# EAGLE library part 691313510007 (library Wurth_Elektronik_Electromechanic_Terminal_Blocks_Connectors_rev15c)
WR-TBL Serie 313 - 5.08 mm Close Horizontal PCB Header , 7 Pins=>Code : Con_TBL_Pluggable_5.08_PCB_THT_Simple_H_691313510007 <http://katalog.we-online.de/media/images/eican/Con_TBL_Pluggable_5.08_PCB_THT_Simple_H_6913135100xx_pf2.jpg> Details see: http://katalog.we-online.de/en/em/691_313_510_0xx Created 2014-06-25, Karrer Zheng 2014 (C) Würth Elektronik
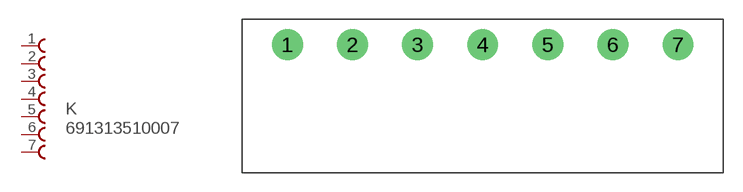
[diagram p113: symbol with the pads of 691313510007; footprint 691313510007]

Designator prefix K

## 691313510007  [691313510007]
1  1  pas
2  2  pas
3  3  pas
4  4  pas
5  5  pas
6  6  pas
7  7  pas

## Footprint 691313510007 (pad centres in mm)
WR-TBL Serie 313 - 5.08 mm Close Horizontal PCB Header , 7 Pins
drill 1.6: 1 -30.48,0; 2 -25.4,0; 3 -20.32,0; 4 -15.24,0; 5 -10.16,0; 6 -5.08,0; 7 0,0